# EAGLE library part DC-DC_CONVERTER (library dc-dc_converter)
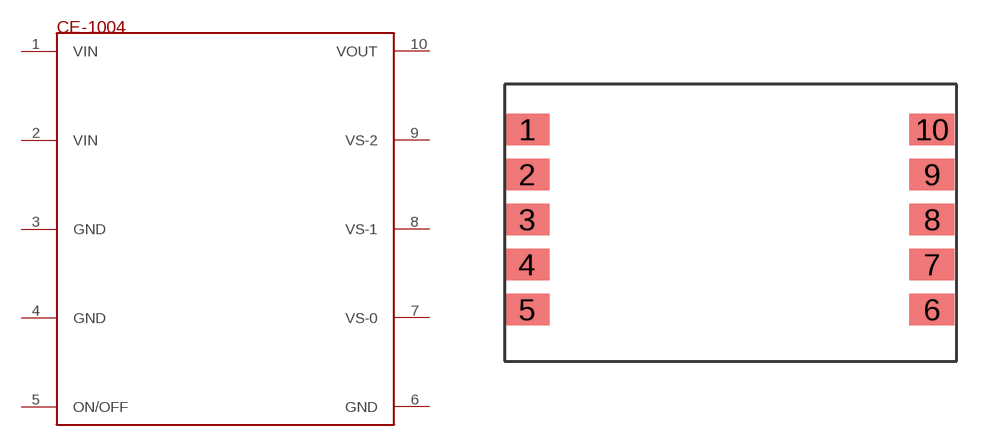
[diagram p0: symbol with the pads of DC-DC_CONVERTER; footprint DC-DC_CONVERTER]

Designator prefix -

## DC-DC_CONVERTER  [DC-DC_CONVERTER]
1  VIN
2  VIN
3  GND  pwr
4  GND  pwr
5  ON/OFF
6  GND  pwr
7  VS-0
8  VS-1
9  VS-2
10  VOUT

## Footprint DC-DC_CONVERTER (pad centres in mm)
smd 2 x 1.4: 1 -9,4; 2 -9,2; 3 -9,0; 4 -9,-2; 5 -9,-4; 6 9,-4; 7 9,-2; 8 9,0; 9 9,2; 10 9,4